# Altium schematic symbol library Schlib1.SchLib: 3 symbols
Pins are listed as number, name and electrical type; pins without a type are passive.

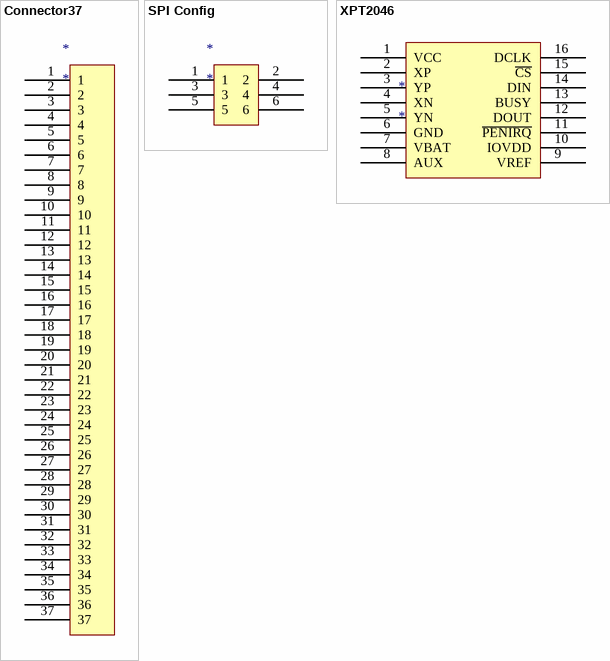
[diagram p0: symbols Connector37 to XPT2046]

## Connector37
designator *
pins: 1 (oe), 2 (oe), 3 (oe), 4 (oe), 5 (oe), 6 (oe), 7 (oe), 8 (oe), 9 (oe), 10 (oe), 11 (oe), 12 (oe), 13 (oe), 14 (oe), 15 (oe), 16 (oe), 17 (oe), 18 (oe), 19 (oe), 20 (oe), 21 (oe), 22 (oe), 23 (oe), 24 (oe), 25 (oe), 26 (oe), 27 (oe), 28 (oe), 29 (oe), 30 (oe), 31 (oe), 32 (oe), 33 (oe), 34 (oe), 35 (oe), 36 (oe), 37 (oe)

## SPI Config
designator *
pins: 1 (oe), 2 (oe), 3 (oe), 4 (oe), 5 (oe), 6 (oe)

## XPT2046
designator *
pins: 1 VCC (oe), 2 XP (oe), 3 YP (oe), 4 XN (oe), 5 YN (oe), 6 GND (oe), 7 VBAT (oe), 8 AUX (oe), 9 VREF (oe), 10 IOVDD (oe), 11 ~{PENIRQ} (oe), 12 DOUT (oe), 13 BUSY (oe), 14 DIN (oe), 15 ~{CS} (oe), 16 DCLK (oe)